# EAGLE library part FMS6406 (library FMS6406-B)
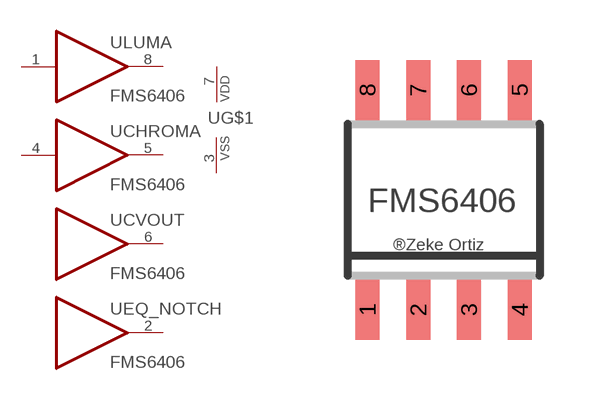
[diagram p0: symbol with the pads of SOIC8; footprint SOIC8]

Designator prefix -; gates LUMA=BUFFER CHROMA=BUFFER CVOUT=BUFFERNOIN EQ_NOTCH=BUFFERNOIN G$1=PWRN

## FMS6406  [SOIC8]
1  LUMA:I
2  EQ_NOTCH:O  out
3  G$1:VSS  pwr
4  CHROMA:I
5  CHROMA:O  out
6  CVOUT:O  out
7  G$1:VDD  pwr
8  LUMA:O  out

## Footprint SOIC8 (pad centres in mm)
SOIC-8 CASE 751-07 Source: http://www.onsemi.com/pub/Collateral/MC34164-D.PDF D (R-PDSO-G8)PLATIC SMALL-OUTLINE PACKAGE Source: http://focus.ti.com/lit/ds/symlink/tlc27l2.pdf
smd 0.6 x 1.5: 1 -1.905,-2.75; 2 -0.635,-2.75; 3 0.635,-2.75; 4 1.905,-2.75; 5 1.905,2.75; 6 0.635,2.75; 7 -0.635,2.75; 8 -1.905,2.75